# Altium schematic symbol library [C] Конденсаторы.SchLib: 12 symbols
Pins are listed as number, name and electrical type; pins without a type are passive.

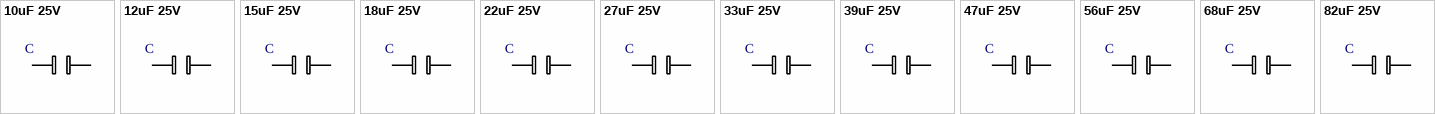
[diagram p0: symbols 10uF 25V to 82uF 25V]

## 10uF 25V
designator C
Емкость, мкФ: 10.0; Допуск: 5%; Макс.Напряжение, В: 25; ComponentLink1Description: Мануал; ComponentLink1URL: https://cdn.promelec.ru/upload/datasheet/3/0/AC0603KRX7R9BB223.pdf?_gl=1*keuha1*_ga*MTI0MzM3MDg3NS4xNzIyNzAwMzYz*_ga_LY608YRQ43*MTcyNTExODQ4Mi41LjEuMTcyNTEyNTIzOS4wLjAuMA..
footprint RC 0201
footprint RC 0402
footprint RC 0603
footprint RC 0805
footprint RC 1206
pins: 1, 2

## 12uF 25V
designator C
Емкость, мкФ: 12.0; Допуск: 5%; Макс.Напряжение, В: 25; ComponentLink1Description: Мануал; ComponentLink1URL: https://cdn.promelec.ru/upload/datasheet/3/0/AC0603KRX7R9BB223.pdf?_gl=1*keuha1*_ga*MTI0MzM3MDg3NS4xNzIyNzAwMzYz*_ga_LY608YRQ43*MTcyNTExODQ4Mi41LjEuMTcyNTEyNTIzOS4wLjAuMA..
footprint RC 0201
footprint RC 0402
footprint RC 0603
footprint RC 0805
footprint RC 1206
pins: 1, 2

## 15uF 25V
designator C
Емкость, мкФ: 15.0; Допуск: 5%; Макс.Напряжение, В: 25; ComponentLink1Description: Мануал; ComponentLink1URL: https://cdn.promelec.ru/upload/datasheet/3/0/AC0603KRX7R9BB223.pdf?_gl=1*keuha1*_ga*MTI0MzM3MDg3NS4xNzIyNzAwMzYz*_ga_LY608YRQ43*MTcyNTExODQ4Mi41LjEuMTcyNTEyNTIzOS4wLjAuMA..
footprint RC 0201
footprint RC 0402
footprint RC 0603
footprint RC 0805
footprint RC 1206
pins: 1, 2

## 18uF 25V
designator C
Емкость, мкФ: 18.0; Допуск: 5%; Макс.Напряжение, В: 25; ComponentLink1Description: Мануал; ComponentLink1URL: https://cdn.promelec.ru/upload/datasheet/3/0/AC0603KRX7R9BB223.pdf?_gl=1*keuha1*_ga*MTI0MzM3MDg3NS4xNzIyNzAwMzYz*_ga_LY608YRQ43*MTcyNTExODQ4Mi41LjEuMTcyNTEyNTIzOS4wLjAuMA..
footprint RC 0201
footprint RC 0402
footprint RC 0603
footprint RC 0805
footprint RC 1206
pins: 1, 2

## 22uF 25V
designator C
Емкость, мкФ: 22.0; Допуск: 5%; Макс.Напряжение, В: 25; ComponentLink1Description: Мануал; ComponentLink1URL: https://cdn.promelec.ru/upload/datasheet/3/0/AC0603KRX7R9BB223.pdf?_gl=1*keuha1*_ga*MTI0MzM3MDg3NS4xNzIyNzAwMzYz*_ga_LY608YRQ43*MTcyNTExODQ4Mi41LjEuMTcyNTEyNTIzOS4wLjAuMA..
footprint RC 0201
footprint RC 0402
footprint RC 0603
footprint RC 0805
footprint RC 1206
pins: 1, 2

## 27uF 25V
designator C
Емкость, мкФ: 27.0; Допуск: 5%; Макс.Напряжение, В: 25; ComponentLink1Description: Мануал; ComponentLink1URL: https://cdn.promelec.ru/upload/datasheet/3/0/AC0603KRX7R9BB223.pdf?_gl=1*keuha1*_ga*MTI0MzM3MDg3NS4xNzIyNzAwMzYz*_ga_LY608YRQ43*MTcyNTExODQ4Mi41LjEuMTcyNTEyNTIzOS4wLjAuMA..
footprint RC 0201
footprint RC 0402
footprint RC 0603
footprint RC 0805
footprint RC 1206
pins: 1, 2

## 33uF 25V
designator C
Емкость, мкФ: 33.0; Допуск: 5%; Макс.Напряжение, В: 25; ComponentLink1Description: Мануал; ComponentLink1URL: https://cdn.promelec.ru/upload/datasheet/3/0/AC0603KRX7R9BB223.pdf?_gl=1*keuha1*_ga*MTI0MzM3MDg3NS4xNzIyNzAwMzYz*_ga_LY608YRQ43*MTcyNTExODQ4Mi41LjEuMTcyNTEyNTIzOS4wLjAuMA..
footprint RC 0201
footprint RC 0402
footprint RC 0603
footprint RC 0805
footprint RC 1206
pins: 1, 2

## 39uF 25V
designator C
Емкость, мкФ: 39.0; Допуск: 5%; Макс.Напряжение, В: 25; ComponentLink1Description: Мануал; ComponentLink1URL: https://cdn.promelec.ru/upload/datasheet/3/0/AC0603KRX7R9BB223.pdf?_gl=1*keuha1*_ga*MTI0MzM3MDg3NS4xNzIyNzAwMzYz*_ga_LY608YRQ43*MTcyNTExODQ4Mi41LjEuMTcyNTEyNTIzOS4wLjAuMA..
footprint RC 0201
footprint RC 0402
footprint RC 0603
footprint RC 0805
footprint RC 1206
pins: 1, 2

## 47uF 25V
designator C
Емкость, мкФ: 47.0; Допуск: 5%; Макс.Напряжение, В: 25; ComponentLink1Description: Мануал; ComponentLink1URL: https://cdn.promelec.ru/upload/datasheet/3/0/AC0603KRX7R9BB223.pdf?_gl=1*keuha1*_ga*MTI0MzM3MDg3NS4xNzIyNzAwMzYz*_ga_LY608YRQ43*MTcyNTExODQ4Mi41LjEuMTcyNTEyNTIzOS4wLjAuMA..
footprint RC 0201
footprint RC 0402
footprint RC 0603
footprint RC 0805
footprint RC 1206
pins: 1, 2

## 56uF 25V
designator C
Емкость, мкФ: 56.0; Допуск: 5%; Макс.Напряжение, В: 25; ComponentLink1Description: Мануал; ComponentLink1URL: https://cdn.promelec.ru/upload/datasheet/3/0/AC0603KRX7R9BB223.pdf?_gl=1*keuha1*_ga*MTI0MzM3MDg3NS4xNzIyNzAwMzYz*_ga_LY608YRQ43*MTcyNTExODQ4Mi41LjEuMTcyNTEyNTIzOS4wLjAuMA..
footprint RC 0201
footprint RC 0402
footprint RC 0603
footprint RC 0805
footprint RC 1206
pins: 1, 2

## 68uF 25V
designator C
Емкость, мкФ: 68.0; Допуск: 5%; Макс.Напряжение, В: 25; ComponentLink1Description: Мануал; ComponentLink1URL: https://cdn.promelec.ru/upload/datasheet/3/0/AC0603KRX7R9BB223.pdf?_gl=1*keuha1*_ga*MTI0MzM3MDg3NS4xNzIyNzAwMzYz*_ga_LY608YRQ43*MTcyNTExODQ4Mi41LjEuMTcyNTEyNTIzOS4wLjAuMA..
footprint RC 0201
footprint RC 0402
footprint RC 0603
footprint RC 0805
footprint RC 1206
pins: 1, 2

## 82uF 25V
designator C
Емкость, мкФ: 82.0; Допуск: 5%; Макс.Напряжение, В: 25; ComponentLink1Description: Мануал; ComponentLink1URL: https://cdn.promelec.ru/upload/datasheet/3/0/AC0603KRX7R9BB223.pdf?_gl=1*keuha1*_ga*MTI0MzM3MDg3NS4xNzIyNzAwMzYz*_ga_LY608YRQ43*MTcyNTExODQ4Mi41LjEuMTcyNTEyNTIzOS4wLjAuMA..
footprint RC 0201
footprint RC 0402
footprint RC 0603
footprint RC 0805
footprint RC 1206
pins: 1, 2